# Altium footprint library SnapEDApcb.PcbLib: 1 footprints
Each footprint in its own frame and in the unit in brackets; x right, y up, seen from the top. Pads: shape width x height; smd on the part's side, far side on the other; paste and mask are expansions set on the pad; w line width, h text height; cw(c..) or ccw(c..) is an arc to the next point about the centre after c.
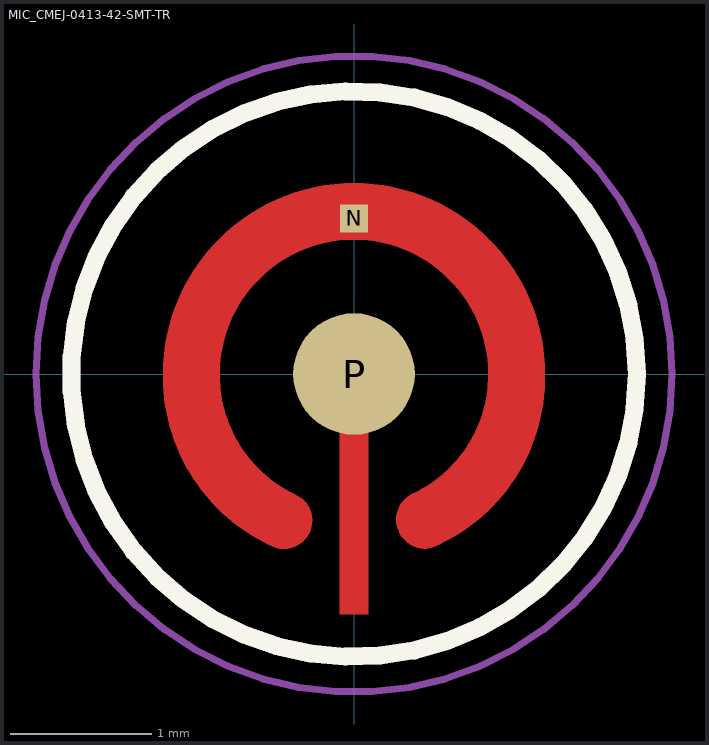
[diagram p0: the footprint, top view; thin cyan lines are the x and y axes]

## MIC_CMEJ-0413-42-SMT-TR [mm]
pads (2):
  rect 0.2x0.2 smd paste-1 mask+0: N(0,1.1)
  round 0.86 smd mask+0: P(0,0)
Top Layer:
  region: 304 vertices and 0 holes, not listed, extent -1.35,-1.237 1.35,1.35
  region: 0.1,-1.7 -0.1,-1.7 -0.1,0 0.1,0
Top Overlay:
  circle w0.127: c0,0 r2
Top Paste:
  drawing of 4 lines, arcs and shapes, not listed
Top Solder:
  drawing of 5 lines, arcs and shapes, not listed
Mechanical 13:
  circle w0.127: c0,0 r2
Mechanical 15:
  circle w0.05: c0,0 r2.25